# Altium footprint library 1608[0603].PcbLib: 1 footprints
Each footprint in its own frame and in the unit in brackets; x right, y up, seen from the top. Pads: shape width x height; smd on the part's side, far side on the other; paste and mask are expansions set on the pad; w line width, h text height; cw(c..) or ccw(c..) is an arc to the next point about the centre after c.
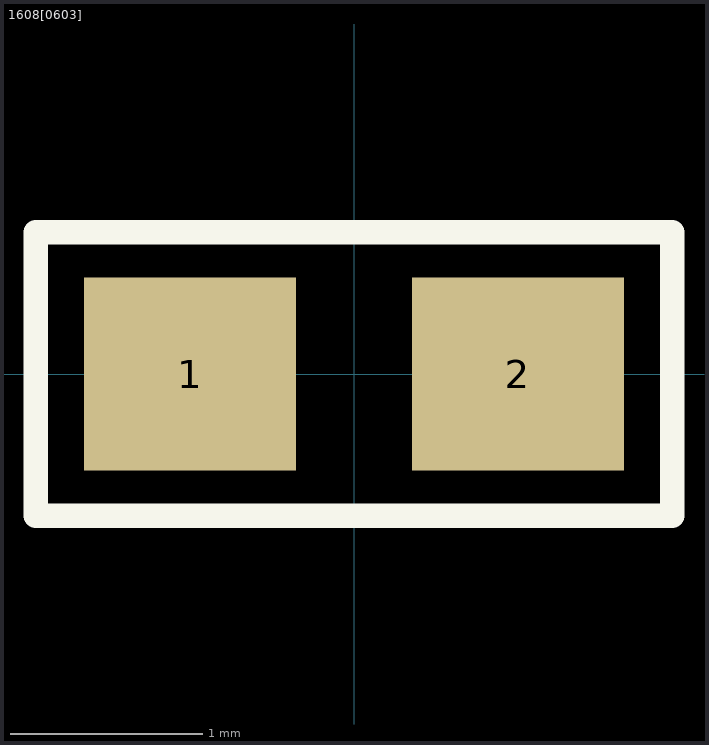
[diagram p0: the footprint, top view; thin cyan lines are the x and y axes]

## 1608[0603] [mm]
height 0.8
pads (2):
  rect 1.1x1 smd: 1(-0.85,0) 2(0.85,0)
Top Overlay:
  lines w0.127: -1.651,-0.737 1.651,-0.737 1.651,0.737 -1.651,0.737 -1.651,-0.737
3D body: height 0.8, standoff 0, extent -1.016,-0.508 1.016,0.508